# EAGLE library part PCF85363A (library gee_s)
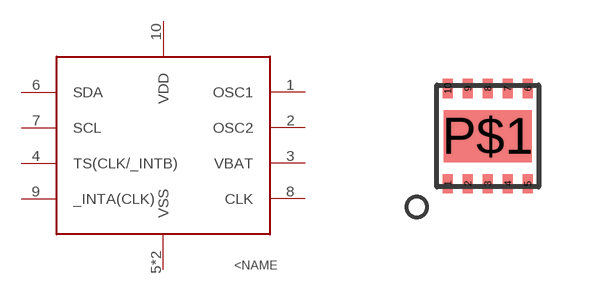
[diagram p18: symbol with the pads of DFN-10; footprint DFN-10]

Designator prefix -

## PCF85363A  [DFN-10]
1  OSC1
2  OSC2
3  VBAT
4  TS(CLK/_INTB)
5  VSS
6  SDA
7  SCL
8  CLK
9  _INTA(CLK)
10  VDD
P$1  VSS

## Footprint DFN-10 (pad centres in mm)
smd 0.25 x 0.475: 1 -1,-1.188; 2 -0.5,-1.188; 3 0,-1.188; 4 0.5,-1.188; 5 1,-1.188; 6 1,1.188; 7 0.5,1.188; 8 0,1.188; 9 -0.5,1.188; 10 -1,1.188
smd 2.2 x 1.3: P$1 0,0